# EAGLE library part RPI-PIN (library ytani1)
Raspberry Pi pin header
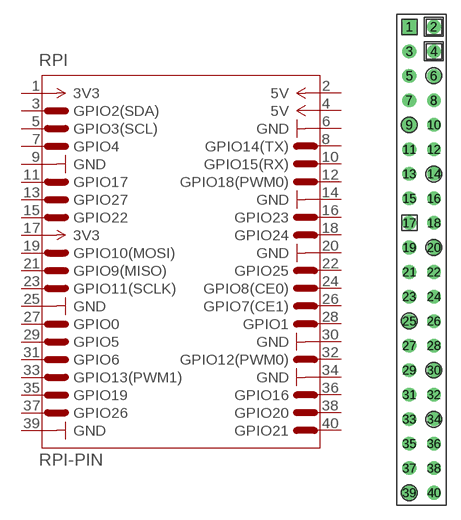
[diagram p5: symbol with the pads of RPI-PIN; footprint RPI-PIN]

Designator prefix RPI

## RPI-PIN  [RPI-PIN]
1  3V3  pas
2  5V  pas
3  GPIO2(SDA)  pas
4  5V  pas
5  GPIO3(SCL)  pas
6  GND  pas
7  GPIO4  pas
8  GPIO14(TX)  pas
9  GND  pas
10  GPIO15(RX)  pas
11  GPIO17  pas
12  GPIO18(PWM0)  pas
13  GPIO27  pas
14  GND  pas
15  GPIO22  pas
16  GPIO23  pas
17  3V3  pas
18  GPIO24  pas
19  GPIO10(MOSI)  pas
20  GND  pas
21  GPIO9(MISO)  pas
22  GPIO25  pas
23  GPIO11(SCLK)  pas
24  GPIO8(CE0)  pas
25  GND  pas
26  GPIO7(CE1)  pas
27  GPIO0  pas
28  GPIO1  pas
29  GPIO5  pas
30  GND  pas
31  GPIO6  pas
32  GPIO12(PWM0)  pas
33  GPIO13(PWM1)  pas
34  GND  pas
35  GPIO19  pas
36  GPIO16  pas
37  GPIO26  pas
38  GPIO20  pas
39  GND  pas
40  GPIO21  pas

## Footprint RPI-PIN (pad centres in mm)
drill 0.9 square: 1 -1.27,24.13
drill 0.9: 2 1.27,24.13; 3 -1.27,21.59; 4 1.27,21.59; 5 -1.27,19.05; 6 1.27,19.05; 7 -1.27,16.51; 8 1.27,16.51; 9 -1.27,13.97; 10 1.27,13.97; 11 -1.27,11.43; 12 1.27,11.43; 13 -1.27,8.89; 14 1.27,8.89; 15 -1.27,6.35; 16 1.27,6.35; 17 -1.27,3.81; 18 1.27,3.81; 19 -1.27,1.27; 20 1.27,1.27; 21 -1.27,-1.27; 22 1.27,-1.27; 23 -1.27,-3.81; 24 1.27,-3.81; 25 -1.27,-6.35; 26 1.27,-6.35; 27 -1.27,-8.89; 28 1.27,-8.89; 29 -1.27,-11.43; 30 1.27,-11.43; 31 -1.27,-13.97; 32 1.27,-13.97; 33 -1.27,-16.51; 34 1.27,-16.51; 35 -1.27,-19.05; 36 1.27,-19.05; 37 -1.27,-21.59; 38 1.27,-21.59; 39 -1.27,-24.13; 40 1.27,-24.13